# Altium schematic symbol library SiliconLabsG.SchLib: 4 symbols
Pins are listed as number, name and electrical type; pins without a type are passive.

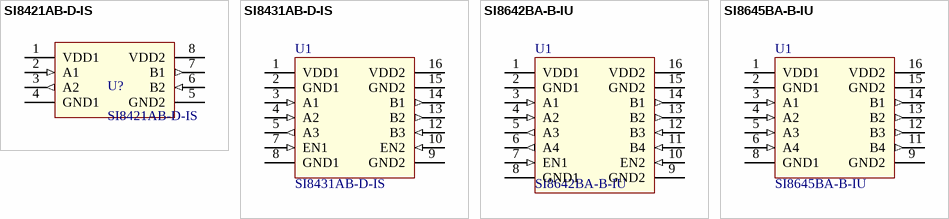
[diagram p0: symbols SI8421AB-D-IS to SI8645BA-B-IU]

## SI8421AB-D-IS
designator U?
Digital Isolator 2ch; Supplier 1: Digi-Key; Supplier Order Qty 1: 5; Supplier Unit Price 1: 1.08; Supplier Part Number 1: 336-1755-5-ND
footprint SOIC127P600-8N (SOIC, 8-Leads, Body 4.9x3.9mm, Pitch 1.27mm, IPC Medium Density)
pins: 1 VDD1 (power), 2 A1 (in), 3 A2 (out), 4 GND1 (power), 5 GND2 (power), 6 B2 (in), 7 B1 (out), 8 VDD2 (power)

## SI8431AB-D-IS
designator U1
3 channel Isolator; Supplier 1: Digi-Key; Supplier Part Number 1: 336-1758-5-ND; Supplier Unit Price 1: 1.55; Supplier Order Qty 1: 3
footprint SOIC127P1030-16N (SOIC, 16-Leads, Body 10.3x7.5mm, Pitch 1.27mm, IPC Medium Density)
pins: 1 VDD1 (power), 2 GND1 (power), 3 A1 (in), 4 A2 (in), 5 A3 (out), 7 EN1 (in), 8 GND1 (power), 9 GND2 (power), 10 EN2 (in), 12 B3 (in), 13 B2 (out), 14 B1 (out), 15 GND2 (power), 16 VDD2 (power)

## SI8642BA-B-IU
designator U1
4 channel Isolator; Supplier 1: Digi-Key; Supplier Part Number 1: 336-2091-5-ND
pins: 1 VDD1 (power), 2 GND1 (power), 3 A1 (in), 4 A2 (in), 5 A3 (out), 6 A4 (out), 7 EN1 (in), 8 GND1 (power), 9 GND2 (power), 10 EN2 (in), 11 B4 (in), 12 B3 (in), 13 B2 (out), 14 B1 (out), 15 GND2 (power), 16 VDD2 (power)

## SI8645BA-B-IU
designator U1
4 channel Isolator; Supplier 1: Digi-Key; Supplier Part Number 1: 336-2096-5-ND
pins: 1 VDD1 (power), 2 GND1 (power), 3 A1 (in), 4 A2 (in), 5 A3 (in), 6 A4 (in), 8 GND1 (power), 9 GND2 (power), 11 B4 (out), 12 B3 (out), 13 B2 (out), 14 B1 (out), 15 GND2 (power), 16 VDD2 (power)